# EAGLE library part TEENSY-3.5 (library teensy-3.5)
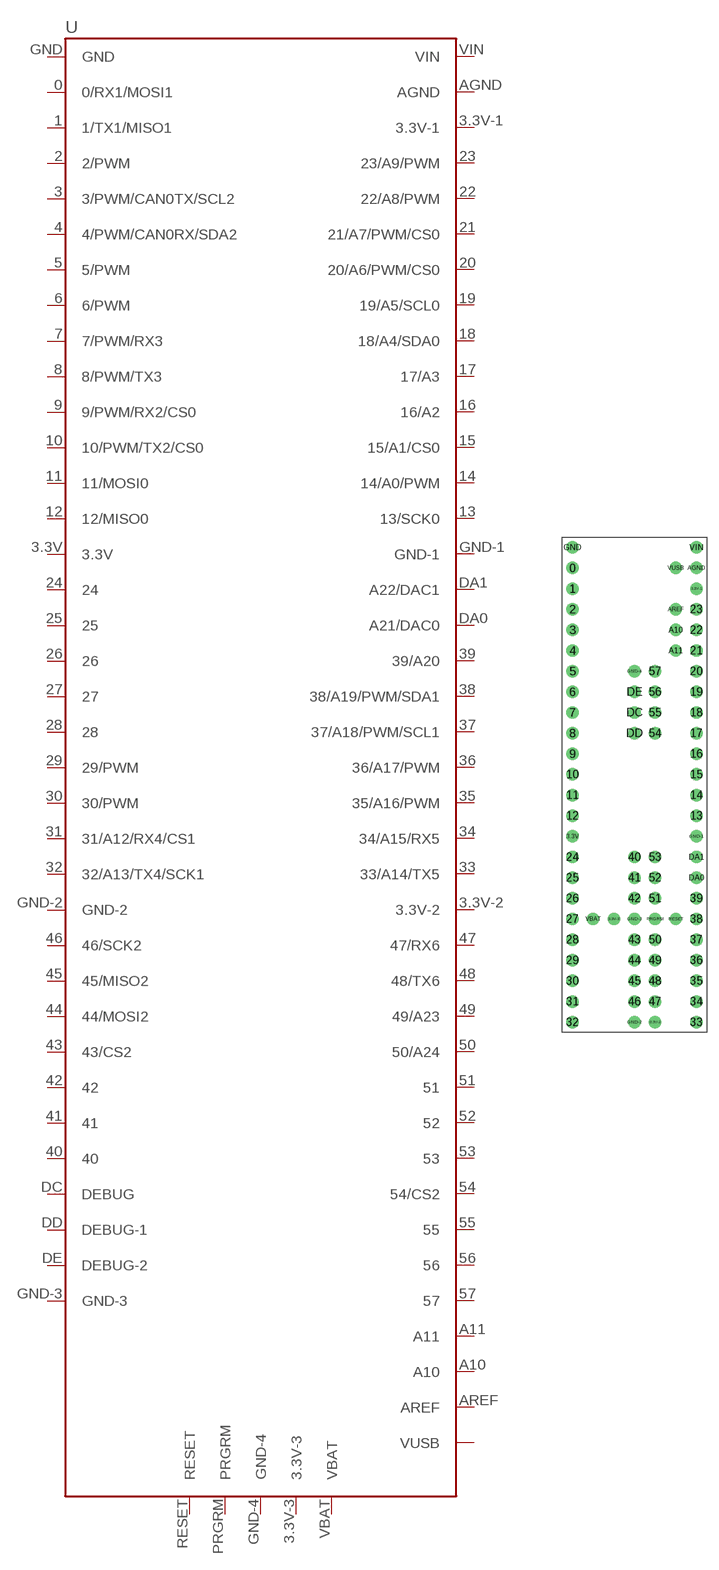
[diagram p0: symbol with the pads of TEENSY-3.5; footprint TEENSY-3.5]

Designator prefix -

## TEENSY-3.5  [TEENSY-3.5]
0  0/RX1/MOSI1
1  1/TX1/MISO1
2  2/PWM
3  3/PWM/CAN0TX/SCL2
3.3V  3.3V
3.3V-1  3.3V-1
3.3V-2  3.3V-2
3.3V-3  3.3V-3
4  4/PWM/CAN0RX/SDA2
5  5/PWM
6  6/PWM
7  7/PWM/RX3
8  8/PWM/TX3
9  9/PWM/RX2/CS0
10  10/PWM/TX2/CS0
11  11/MOSI0
12  12/MISO0
13  13/SCK0
14  14/A0/PWM
15  15/A1/CS0
16  16/A2
17  17/A3
18  18/A4/SDA0
19  19/A5/SCL0
20  20/A6/PWM/CS0
21  21/A7/PWM/CS0
22  22/A8/PWM
23  23/A9/PWM
24  24
25  25
26  26
27  27
28  28
29  29/PWM
30  30/PWM
31  31/A12/RX4/CS1
32  32/A13/TX4/SCK1
33  33/A14/TX5
34  34/A15/RX5
35  35/A16/PWM
36  36/A17/PWM
37  37/A18/PWM/SCL1
38  38/A19/PWM/SDA1
39  39/A20
40  40
41  41
42  42
43  43/CS2
44  44/MOSI2
45  45/MISO2
46  46/SCK2
47  47/RX6
48  48/TX6
49  49/A23
50  50/A24
51  51
52  52
53  53
54  54/CS2
55  55
56  56
57  57
A10  A10
A11  A11
AGND  AGND
AREF  AREF
DA0  A21/DAC0
DA1  A22/DAC1
DC  DEBUG
DD  DEBUG-1
DE  DEBUG-2
GND  GND
GND-1  GND-1
GND-2  GND-2
GND-3  GND-3
GND-4  GND-4
PRGRM  PRGRM
RESET  RESET
VBAT  VBAT
VIN  VIN

## Footprint TEENSY-3.5 (pad centres in mm)
drill 1.016: 0 -7.62,26.67; 1 -7.62,24.13; 2 -7.62,21.59; 3 -7.62,19.05; 3.3V -7.62,-6.35; 3.3V-1 7.62,24.13; 3.3V-2 2.54,-29.21; 3.3V-3 -2.54,-16.51; 4 -7.62,16.51; 5 -7.62,13.97; 6 -7.62,11.43; 7 -7.62,8.89; 8 -7.62,6.35; 9 -7.62,3.81; 10 -7.62,1.27; 11 -7.62,-1.27; 12 -7.62,-3.81; 13 7.62,-3.81; 14 7.62,-1.27; 15 7.62,1.27; 16 7.62,3.81; 17 7.62,6.35; 18 7.62,8.89; 19 7.62,11.43; 20 7.62,13.97; 21 7.62,16.51; 22 7.62,19.05; 23 7.62,21.59; 24 -7.62,-8.89; 25 -7.62,-11.43; 26 -7.62,-13.97; 27 -7.62,-16.51; 28 -7.62,-19.05; 29 -7.62,-21.59; 30 -7.62,-24.13; 31 -7.62,-26.67; 32 -7.62,-29.21; 33 7.62,-29.21; 34 7.62,-26.67; 35 7.62,-24.13; 36 7.62,-21.59; 37 7.62,-19.05; 38 7.62,-16.51; 39 7.62,-13.97; 40 0,-8.89; 41 0,-11.43; 42 0,-13.97; 43 0,-19.05; 44 0,-21.59; 45 0,-24.13; 46 0,-26.67; 47 2.54,-26.67; 48 2.54,-24.13; 49 2.54,-21.59; 50 2.54,-19.05; 51 2.54,-13.97; 52 2.54,-11.43; 53 2.54,-8.89; 54 2.54,6.35; 55 2.54,8.89; 56 2.54,11.43; 57 2.54,13.97; A10 5.08,19.05; A11 5.08,16.51; AGND 7.62,26.67; AREF 5.08,21.59; DA0 7.62,-11.43; DA1 7.62,-8.89; DC 0,8.89; DD 0,6.35; DE 0,11.43; GND -7.62,29.21; GND-1 7.62,-6.35; GND-2 0,-29.21; GND-3 0,-16.51; GND-4 0,13.97; PRGRM 2.54,-16.51; RESET 5.08,-16.51; VBAT -5.08,-16.51; VIN 7.62,29.21; VUSB 5.08,26.67